# Altium footprint library Buzzer.PcbLib: 5 footprints
Each footprint in its own frame and in the unit in brackets; x right, y up, seen from the top. Pads: shape width x height; smd on the part's side, far side on the other; paste and mask are expansions set on the pad; w line width, h text height; cw(c..) or ccw(c..) is an arc to the next point about the centre after c.
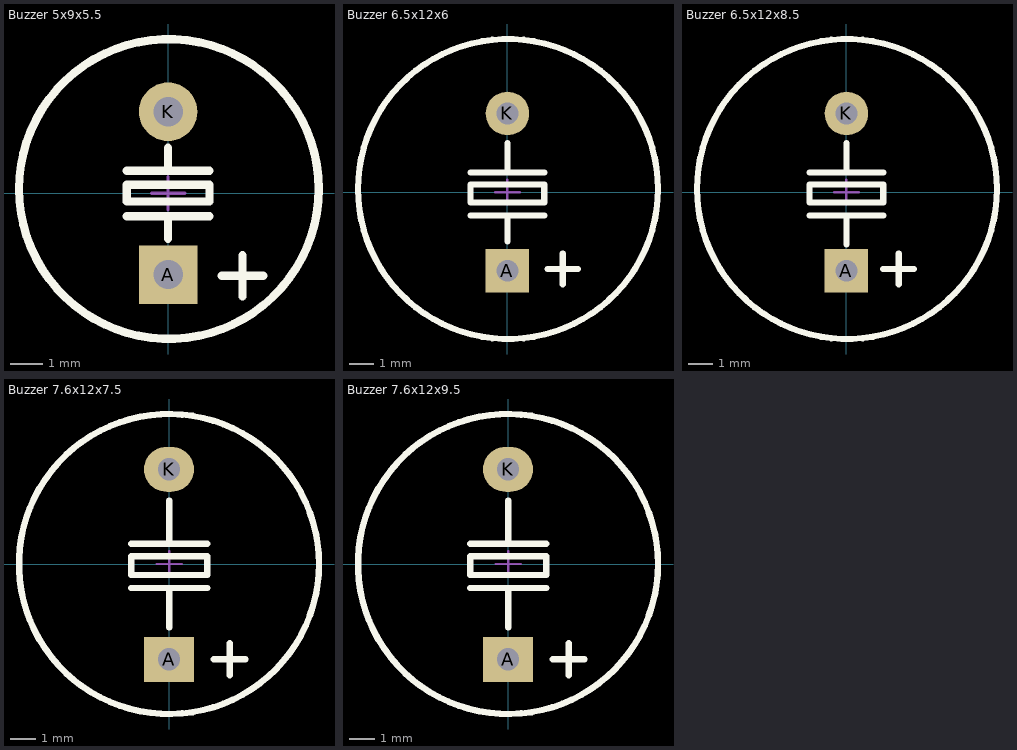
[diagram p0: the footprints below, top view; thin cyan lines are the x and y axes]

## Buzzer 5x9x5.5 [mm] "5*9*5.5mm"
pads (2):
  rect 1.8x1.8 hole 0.9: A(0,-2.5)
  round 1.8 hole 0.9: K(0,2.5)
Top Overlay:
  circle w0.254: c0.023,0.127 r4.6
  lines w0.254: -1.27,-0.709 1.27,-0.709 ; -1.27,0.685 1.27,0.685 ; 0,-1.397 0,-0.709 ; 0,0.812 0,1.397 ; 1.651,-2.54 2.921,-2.54 ; 2.286,-3.175 2.286,-1.905 ; -1.27,-0.254 1.27,-0.254 1.27,0.254 -1.27,0.254 -1.27,-0.254
Bottom Overlay:
  circle w0.254: c0.032,0.127 r4.6
  lines w0.254: 1.651,-2.54 2.921,-2.54 ; 2.286,-3.175 2.286,-1.905
Mechanical 15:
  lines w0.1: -0.508,0 0.508,0 ; 0,-0.508 0,0.508
3D body "BEEP 5x9x5.5.STEP": height 5.55, standoff -3.55, extent -4.5,-5.573 4.5,4.5

## Buzzer 6.5x12x6 [mm] "6.5*12*6mm"
pads (2):
  rect 1.8x1.8 hole 0.9: A(0,-3.25)
  round 1.8 hole 0.9: K(0,3.25)
Top Overlay:
  circle w0.254: c0.023,0.127 r6.2
  lines w0.254: -1.524,-0.963 1.524,-0.963 ; -1.524,0.812 1.524,0.812 ; 0,-2.032 0,-0.963 ; 0,0.812 0,2.032 ; 1.651,-3.175 2.921,-3.175 ; 2.286,-3.81 2.286,-2.54 ; -1.524,-0.438 -1.524,0.312 1.524,0.312 1.524,-0.438 -1.524,-0.438
Bottom Overlay:
  circle w0.254: c0.032,0.127 r6.165
  lines w0.254: 1.651,-3.175 2.921,-3.175 ; 2.286,-3.81 2.286,-2.54
Mechanical 15:
  lines w0.1: -0.508,0 0.508,0 ; 0,-0.508 0,0.508
3D body "BEEP 6.5x12x6.STEP": height 6.15, standoff -3.25, extent -6,-7.583 6,6

## Buzzer 6.5x12x8.5 [mm] "6.5*12*8.5mm"
pads (2):
  rect 1.8x1.8 hole 0.9: A(0,-3.25)
  round 1.8 hole 0.9: K(0,3.25)
Top Overlay:
  circle w0.254: c0.023,0.127 r6.2
  lines w0.254: -1.524,-0.963 1.524,-0.963 ; -1.524,0.812 1.524,0.812 ; 0,-2.159 0,-0.963 ; 0,0.812 0,2.032 ; 1.524,-3.175 2.794,-3.175 ; 2.159,-3.81 2.159,-2.54 ; -1.524,-0.438 1.524,-0.438 1.524,0.312 -1.524,0.312 -1.524,-0.438
Bottom Overlay:
  circle w0.254: c0.032,0.127 r6.165
  lines w0.254: 1.524,-3.175 2.794,-3.175 ; 2.159,-3.81 2.159,-2.54
Mechanical 15:
  lines w0.1: -0.508,0 0.508,0 ; 0,-0.508 0,0.508
3D body "BEEP 6.5x12x8.5.STEP": height 8.55, standoff -3.25, extent -6,-7.583 6,6

## Buzzer 7.6x12x7.5 [mm] "6.5*12*7.5mm"
height 9.398
pads (2):
  rect 2x1.8 hole 0.9: A(-0.011,-3.811)
  oval 2x1.8 hole 0.9: K(-0.011,3.789)
Top Overlay:
  circle w0.254: c-0.011,0 r6.001
  lines w0.254: -1.524,-0.963 1.524,-0.963 ; -1.524,0.812 1.524,0.812 ; 0,-2.54 0,-0.963 ; 0,0.812 0,2.54 ; 1.778,-3.81 3.048,-3.81 ; 2.413,-4.445 2.413,-3.175 ; -1.524,-0.438 -1.524,0.312 1.524,0.312 1.524,-0.438 -1.524,-0.438
Bottom Overlay:
  circle w0.254: c-0.011,0 r6.001
  lines w0.254: 1.778,-3.81 3.048,-3.81 ; 2.413,-4.445 2.413,-3.175
Mechanical 15:
  lines w0.1: -0.508,0 0.508,0 ; 0,-0.508 0,0.508
3D body "BEEP 7.6x12x7.5.STEP": height 7.55, standoff -3.25, extent -6.011,-7.511 5.989,6.072

## Buzzer 7.6x12x9.5 [mm] "6.5*12*9.5mm"
height 9.398
pads (2):
  rect 2x1.8 hole 0.9: A(-0.011,-3.811)
  oval 2x1.8 hole 0.9: K(-0.011,3.789)
Top Overlay:
  circle w0.254: c-0.011,0 r6.001
  lines w0.254: -1.524,-0.963 1.524,-0.963 ; -1.524,0.812 1.524,0.812 ; 0,-2.54 0,-0.963 ; 0,0.812 0,2.54 ; 1.778,-3.81 3.048,-3.81 ; 2.413,-4.445 2.413,-3.175 ; -1.524,-0.438 -1.524,0.312 1.524,0.312 1.524,-0.438 -1.524,-0.438
Bottom Overlay:
  circle w0.254: c-0.011,0 r6.001
  lines w0.254: 1.778,-3.81 3.048,-3.81 ; 2.413,-4.445 2.413,-3.175
Mechanical 15:
  lines w0.1: -0.508,0 0.508,0 ; 0,-0.508 0,0.508
3D body "BEEP 7.6x12x9.5.STEP": height 9.55, standoff -3.25, extent -6.011,-7.511 5.989,6.072